# EAGLE library part FSA1259 (library _RoweTel)
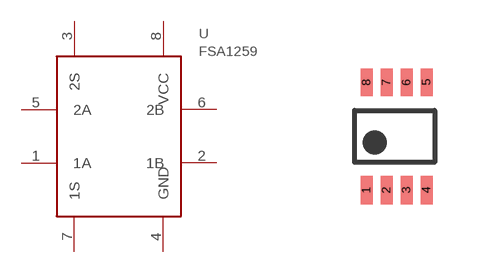
[diagram p9: symbol with the pads of FSA1259; footprint FSA1259]

Designator prefix U

## FSA1259  [FSA1259]
1  1A
2  1B
3  2S
4  GND
5  2A
6  2B
7  1S
8  VCC

## Footprint FSA1259 (pad centres in mm)
smd 0.3 x 0.7: 1 -0.745,-1.372; 2 -0.245,-1.372; 3 0.255,-1.372; 4 0.755,-1.372; 5 0.755,1.328; 6 0.255,1.328; 7 -0.245,1.328; 8 -0.745,1.328